# Altium schematic symbol library OPA455IDDA.SchLib: 7 symbols
Pins are listed as number, name and electrical type; pins without a type are passive.

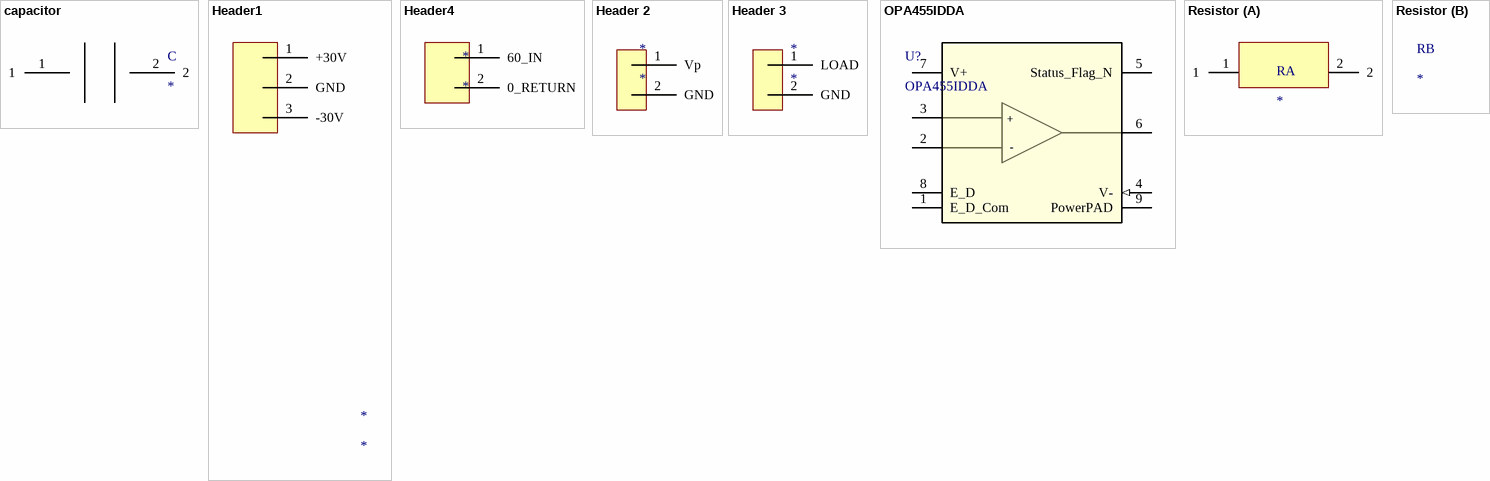
[diagram p0: symbols capacitor to Resistor]

## capacitor
designator C
footprint PCBComponent_1 - duplicate
pins: 1, 2

## Header1
designator *
footprint PCBComponent_1 - duplicate1
pins: 1 +30V, 2 GND, 3 -30V

## Header4
designator *
footprint PCBComponent_1 - duplicate2
pins: 1 60_IN, 2 0_RETURN

## Header 2
designator *
footprint PCBComponent_1 - duplicate2
pins: 1 Vp, 2 GND

## Header 3
designator *
footprint PCBComponent_1 - duplicate2
pins: 1 LOAD, 2 GND

## OPA455IDDA
designator U?
150-V, wide bandwidth 6.5-MHz, high-slew rate 32-V/Âµs unity-gain stable op amp 8-SO PowerPAD -40 to 85; Manufacturer_Name: Texas Instruments; TYPE: TYPE; RefDes: RefDes; Copyright: Copyright (C) 2026 Ultra Librarian. All rights reserved.; Manufacturer_Part_Number: OPA455IDDA; Datasheet: https://www.ti.com/lit/gpn/opa455
footprint DDA0008J-IPC_A
pins: 1 E_D_Com, 2 -IN, 3 +IN, 4 V- (in), 5 Status_Flag_N (hiz), 6 OUT (hiz), 7 V+ (power), 8 E_D (oc), 9 PowerPAD
text: +; -

## Resistor
designator R
footprint PCBComponent_1
part A pins: 1, 2